# EAGLE library part ILI9342-2.6" (library RetroESP32)
ILI9342 51P 2.6" TFT LCD
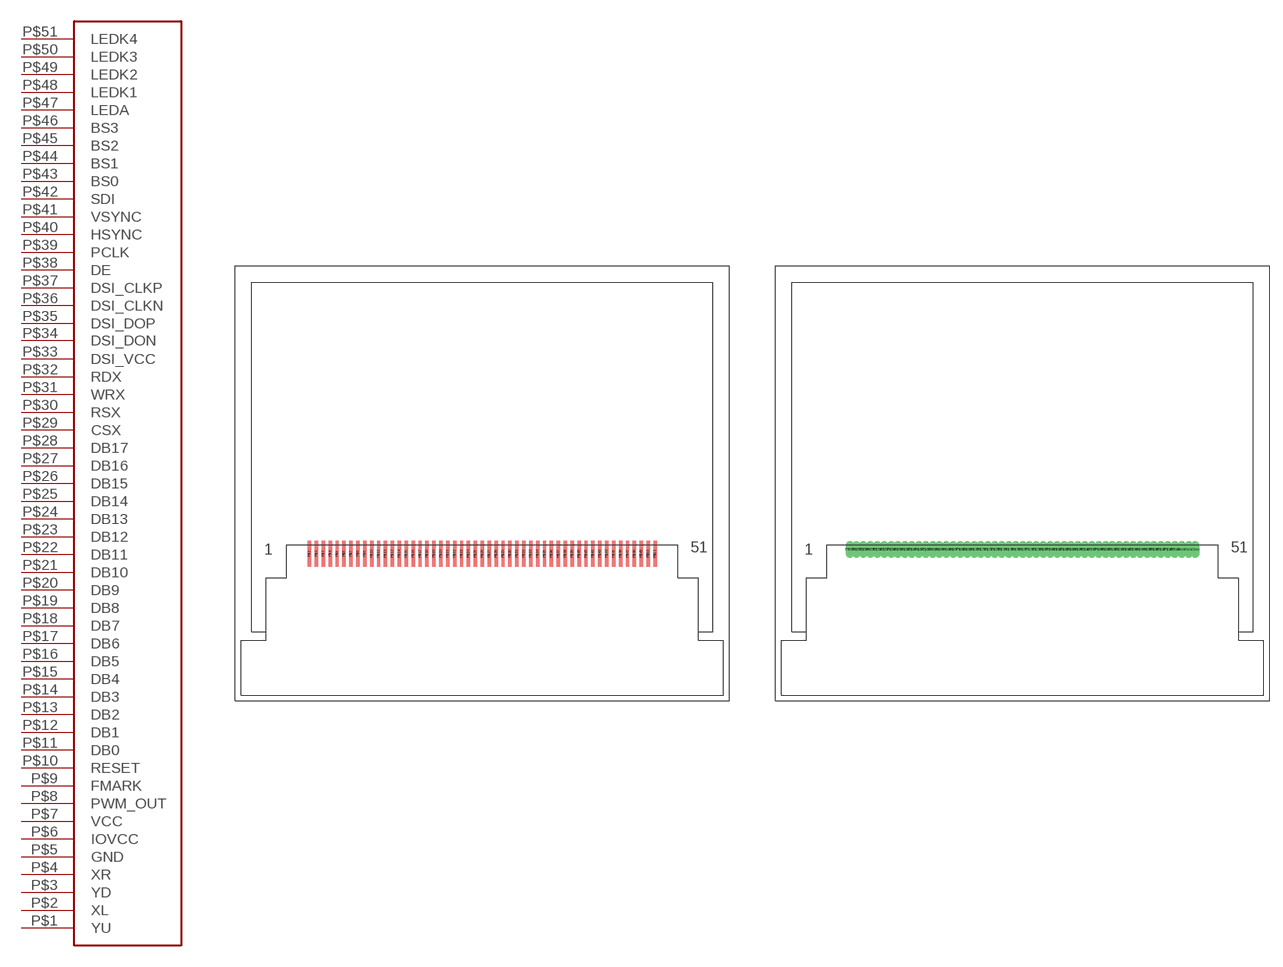
[diagram p4: symbol with the pads of ILI9342-2.6"; footprints ILI9342-2.6", ILI9342-2.6"-ADAPTER]

Designator prefix -

## ILI9342-2.6"  [ILI9342-2.6"]
P$1  YU
P$2  XL
P$3  YD
P$4  XR
P$5  GND
P$6  IOVCC
P$7  VCC
P$8  PWM_OUT
P$9  FMARK
P$10  RESET
P$11  DB0
P$12  DB1
P$13  DB2
P$14  DB3
P$15  DB4
P$16  DB5
P$17  DB6
P$18  DB7
P$19  DB8
P$20  DB9
P$21  DB10
P$22  DB11
P$23  DB12
P$24  DB13
P$25  DB14
P$26  DB15
P$27  DB16
P$28  DB17
P$29  CSX
P$30  RSX
P$31  WRX
P$32  RDX
P$33  DSI_VCC
P$34  DSI_DON
P$35  DSI_DOP
P$36  DSI_CLKN
P$37  DSI_CLKP
P$38  DE
P$39  PCLK
P$40  HSYNC
P$41  VSYNC
P$42  SDI
P$43  BS0
P$44  BS1
P$45  BS2
P$46  BS3
P$47  LEDA
P$48  LEDK1
P$49  LEDK2
P$50  LEDK3
P$51  LEDK4

## ILI9342-2.6"ILI9342-CASTELLATED  [ILI9342-2.6"-ADAPTER]
P$52  YU
P$53  XL
P$54  YD
P$55  XR
P$56  GND
P$57  IOVCC
P$58  VCC
P$59  PWM_OUT
P$60  FMARK
P$61  RESET
P$62  DB0
P$63  DB1
P$64  DB2
P$65  DB3
P$66  DB4
P$67  DB5
P$68  DB6
P$69  DB7
P$70  DB8
P$71  DB9
P$72  DB10
P$73  DB11
P$74  DB12
P$75  DB13
P$76  DB14
P$77  DB15
P$78  DB16
P$79  DB17
P$80  CSX
P$81  RSX
P$82  WRX
P$83  RDX
P$84  DSI_VCC
P$85  DSI_DON
P$86  DSI_DOP
P$87  DSI_CLKN
P$88  DSI_CLKP
P$89  DE
P$90  PCLK
P$91  HSYNC
P$92  VSYNC
P$93  SDI
P$94  BS0
P$95  BS1
P$96  BS2
P$97  BS3
P$98  LEDA
P$99  LEDK1
P$100  LEDK2
P$101  LEDK3
P$102  LEDK4

## Footprint ILI9342-2.6" (pad centres in mm)
smd 0.4 x 3: P$1 -20,-8.12; P$2 -19.2,-8.12; P$3 -18.4,-8.12; P$4 -17.6,-8.12; P$5 -16.8,-8.12; P$6 -16,-8.12; P$7 -15.2,-8.12; P$8 -14.4,-8.12; P$9 -13.6,-8.12; P$10 -12.8,-8.12; P$11 -12,-8.12; P$12 -11.2,-8.12; P$13 -10.4,-8.12; P$14 -9.6,-8.12; P$15 -8.8,-8.12; P$16 -8,-8.12; P$17 -7.2,-8.12; P$18 -6.4,-8.12; P$19 -5.6,-8.12; P$20 -4.8,-8.12; P$21 -4,-8.12; P$22 -3.2,-8.12; P$23 -2.4,-8.12; P$24 -1.6,-8.12; P$25 -0.8,-8.12; P$26 0,-8.12; P$27 0.8,-8.12; P$28 1.6,-8.12; P$29 2.4,-8.12; P$30 3.2,-8.12; P$31 4,-8.12; P$32 4.8,-8.12; P$33 5.6,-8.12; P$34 6.4,-8.12; P$35 7.2,-8.12; P$36 8,-8.12; P$37 8.8,-8.12; P$38 9.6,-8.12; P$39 10.4,-8.12; P$40 11.2,-8.12; P$41 12,-8.12; P$42 12.8,-8.12; P$43 13.6,-8.12; P$44 14.4,-8.12; P$45 15.2,-8.12; P$46 16,-8.12; P$47 16.8,-8.12; P$48 17.6,-8.12; P$49 18.4,-8.12; P$50 19.2,-8.12; P$51 20,-8.12

## Footprint ILI9342-2.6"-ADAPTER (pad centres in mm)
drill 0.45 pad 0.525 long: P$52 -19.2,-7.632; P$53 -20,-7.632; P$54 -18.4,-7.632; P$55 -17.6,-7.632; P$56 -16.8,-7.632; P$57 -16,-7.632; P$58 -15.2,-7.632; P$59 -14.4,-7.632; P$60 -13.6,-7.632; P$61 -12.8,-7.632; P$62 -12,-7.632; P$63 -11.2,-7.632; P$64 -10.4,-7.632; P$65 -9.6,-7.632; P$66 -8.8,-7.632; P$67 -8,-7.632; P$68 -7.2,-7.632; P$69 -6.4,-7.632; P$70 -5.6,-7.632; P$71 -4.8,-7.632; P$72 -4,-7.632; P$73 -3.2,-7.632; P$74 -2.4,-7.632; P$75 -1.6,-7.632; P$76 -0.8,-7.632; P$77 0,-7.632; P$78 0.8,-7.632; P$79 1.6,-7.632; P$80 2.4,-7.632; P$81 3.2,-7.632; P$82 4,-7.632; P$83 4.8,-7.632; P$84 5.6,-7.632; P$85 6.4,-7.632; P$86 7.2,-7.632; P$87 8,-7.632; P$88 8.8,-7.632; P$89 9.6,-7.632; P$90 10.4,-7.632; P$91 11.2,-7.632; P$92 12,-7.632; P$93 12.8,-7.632; P$94 13.6,-7.632; P$95 14.4,-7.632; P$96 15.2,-7.632; P$97 16,-7.632; P$98 16.8,-7.632; P$99 17.6,-7.632; P$100 18.4,-7.632; P$101 19.2,-7.632; P$102 20,-7.632